# Altium schematic symbol library 1N4148.SchLib: 1 symbol
Pins are listed as number, name and electrical type; pins without a type are passive.

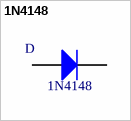
[diagram p0: symbol 1N4148]

## 1N4148
designator D  value 1N4148  (hidden comment: *)
Manufacturer: MULTICOMP; Farnell Code: 9565124; Manufacturer Code: 1N4148; Unit Price: 0,018 €; MOQ: 1
footprint DO35 (Footprint not found)
footprint DO35 Vertical (Footprint not found)
pins: 1 K, 2 A